# Altium footprint library swicth.PcbLib: 82 footprints (part 4 of 6)
Each footprint in its own frame and in the unit in brackets; x right, y up, seen from the top. Pads: shape width x height; smd on the part's side, far side on the other; paste and mask are expansions set on the pad; w line width, h text height; cw(c..) or ccw(c..) is an arc to the next point about the centre after c.
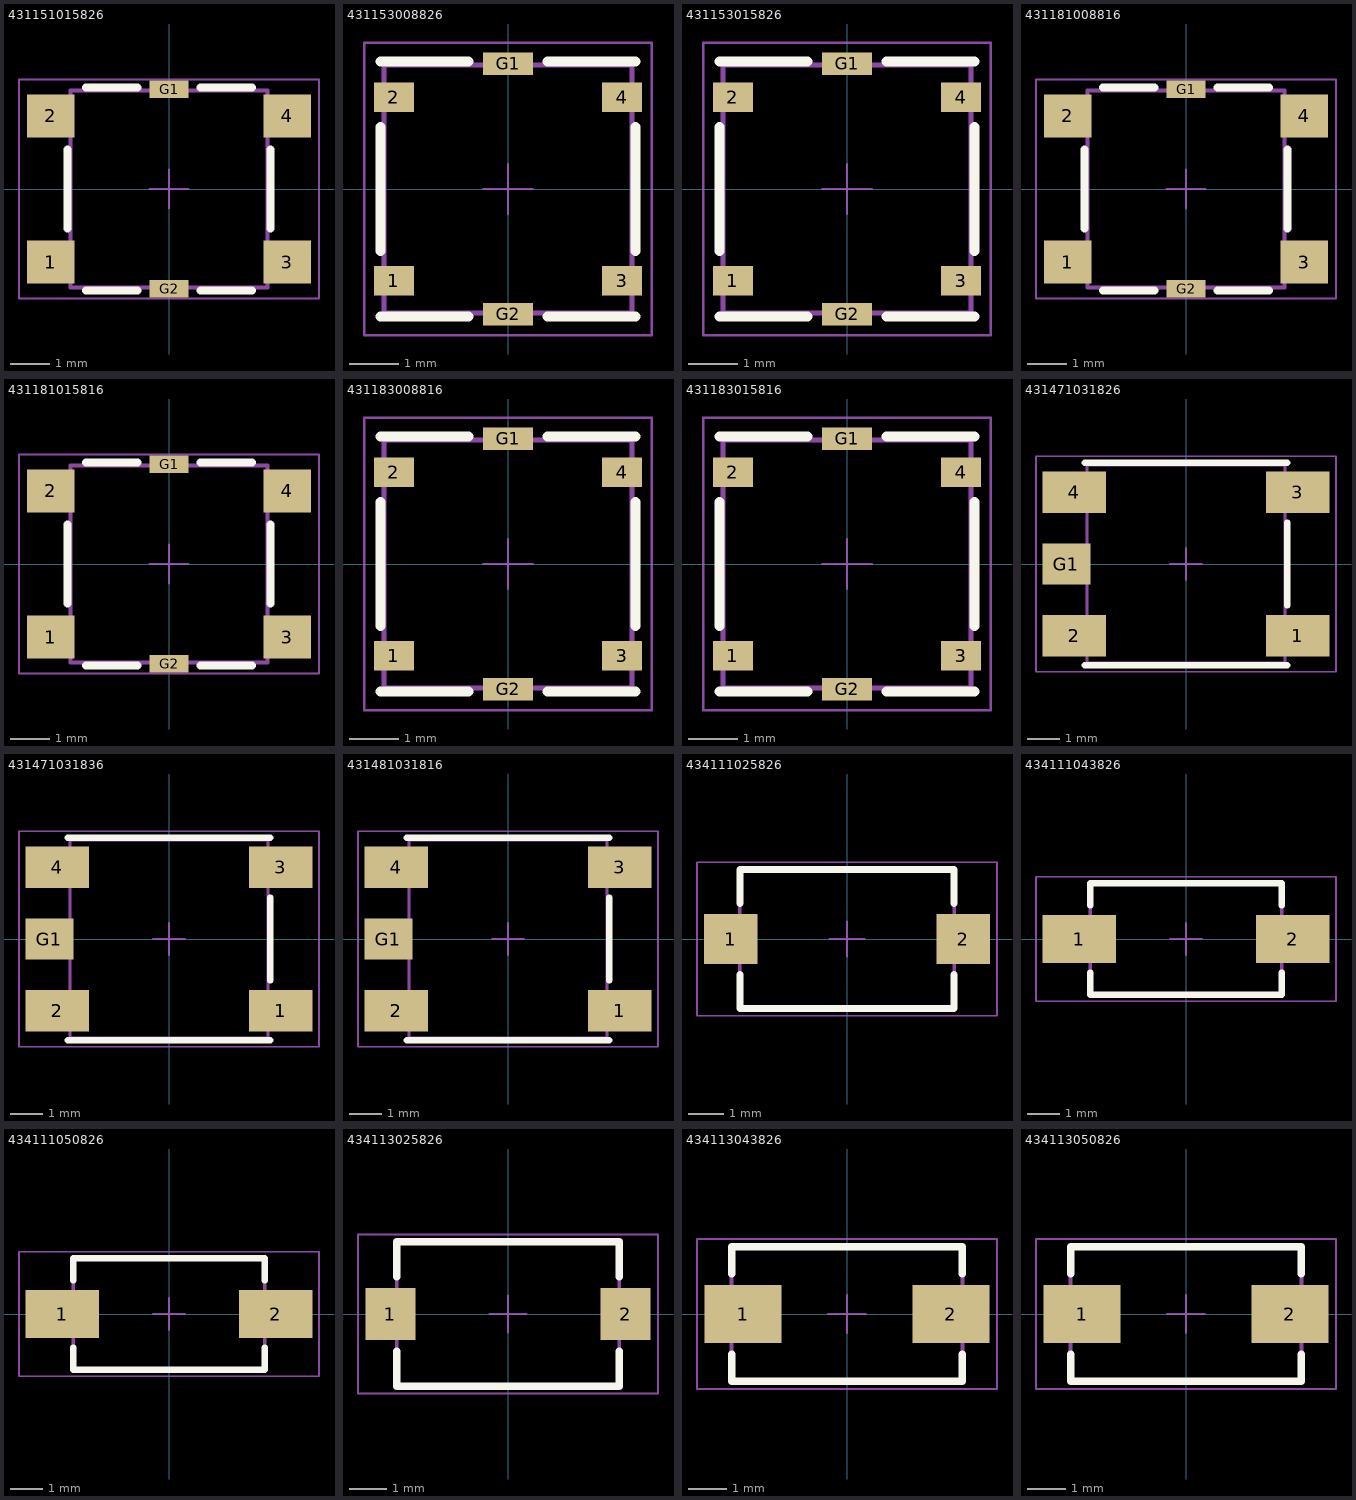
[diagram p3: the footprints below, top view; thin cyan lines are the x and y axes]

## 431151015826 [mm] "Tact Switch, SMD, body 5x5mm"
height 1.5
pads (6):
  rect 1.2x1.1 smd: 1(-3,-1.85) 2(-3,1.85) 3(3,-1.85) 4(3,1.85)
  rect 1x0.45 smd: G1(0,2.525) G2(0,-2.525)
Top Overlay:
  lines w0.2: -2.575,-1 -2.575,1 ; -2.1,-2.575 -0.8,-2.575 ; -2.1,2.575 -0.8,2.575 ; 0.8,-2.575 2.1,-2.575 ; 0.8,2.575 2.1,2.575 ; 2.575,-1 2.575,1
Mechanical 13:
  lines w0.1: -2.5,-2.1 -3.1,-2.1 -3.1,-1.6 -2.5,-1.6 ; -2.5,1.6 -3.1,1.6 -3.1,2.1 -2.5,2.1 ; 2.5,-2.1 3.1,-2.1 3.1,-1.6 2.5,-1.6 ; 2.5,1.6 3.1,1.6 3.1,2.1 2.5,2.1 ; -2.5,-2.5 -2.5,2.5 2.5,2.5 2.5,-2.5 -2.5,-2.5
Mechanical 15:
  lines w0.05: -0.5,0 0.5,0 ; 0,-0.5 0,0.5 ; -3.8,-2.775 3.8,-2.775 3.8,2.775 -3.8,2.775 -3.8,-2.775
3D body "4311x10158x6.stp": height 1.5, standoff 0, extent -3.1,-2.5 3.1,2.5

## 431153008826 [mm] "Tact Switch, SMD, body 5x5mm"
height 0.8
pads (6):
  rect 0.8x0.6 smd: 1(-2.3,-1.85) 2(-2.3,1.85) 3(2.3,-1.85) 4(2.3,1.85)
  rect 1x0.45 smd: G1(0,2.525) G2(0,-2.525)
Top Overlay:
  lines w0.2: -2.575,-2.575 -0.8,-2.575 ; -2.575,-1.25 -2.575,1.25 ; -2.575,2.575 -0.8,2.575 ; 0.8,-2.575 2.575,-2.575 ; 0.8,2.575 2.575,2.575 ; 2.575,-1.25 2.575,1.25
Mechanical 13:
  lines w0.1: -2.5,-2.5 2.5,-2.5 2.5,2.5 -2.5,2.5 -2.5,-2.5
Mechanical 15:
  lines w0.05: -0.5,0 0.5,0 ; 0,-0.5 0,0.5 ; -2.9,-2.95 2.9,-2.95 2.9,2.95 -2.9,2.95 -2.9,-2.95
3D body "4311x30088x6.stp": height 0.8, standoff 0, extent -2.55,-2.5 2.55,2.5

## 431153015826 [mm] "Tact Switch, SMD, body 5x5mm"
height 1.5
pads (6):
  rect 0.8x0.6 smd: 1(-2.3,-1.85) 2(-2.3,1.85) 3(2.3,-1.85) 4(2.3,1.85)
  rect 1x0.45 smd: G1(0,2.525) G2(0,-2.525)
Top Overlay:
  lines w0.2: -2.575,-2.575 -0.8,-2.575 ; -2.575,-1.25 -2.575,1.25 ; -2.575,2.575 -0.8,2.575 ; 0.8,-2.575 2.575,-2.575 ; 0.8,2.575 2.575,2.575 ; 2.575,-1.25 2.575,1.25
Mechanical 13:
  lines w0.1: -2.5,-2.5 -2.5,2.5 2.5,2.5 2.5,-2.5 -2.5,-2.5
Mechanical 15:
  lines w0.05: -0.5,0 0.5,0 ; 0,-0.5 0,0.5 ; -2.9,-2.95 -2.9,2.95 2.9,2.95 2.9,-2.95 -2.9,-2.95
3D body "4311x30158x6.stp": height 1.5, standoff 0, extent -2.55,-2.5 2.55,2.5

## 431181008816 [mm] "Tact Switch, SMD, body 5x5mm"
height 0.8
pads (6):
  rect 1.2x1.1 smd: 1(-3,-1.85) 2(-3,1.85) 3(3,-1.85) 4(3,1.85)
  rect 1x0.45 smd: G1(0,2.525) G2(0,-2.525)
Top Overlay:
  lines w0.2: -2.575,-1 -2.575,1 ; -2.1,-2.575 -0.8,-2.575 ; -2.1,2.575 -0.8,2.575 ; 0.8,-2.575 2.1,-2.575 ; 0.8,2.575 2.1,2.575 ; 2.575,-1 2.575,1
Mechanical 13:
  lines w0.1: -2.5,-2.1 -3.1,-2.1 -3.1,-1.6 -2.5,-1.6 ; -2.5,1.6 -3.1,1.6 -3.1,2.1 -2.5,2.1 ; 2.5,-2.1 3.1,-2.1 3.1,-1.6 2.5,-1.6 ; 2.5,1.6 3.1,1.6 3.1,2.1 2.5,2.1 ; -2.5,-2.5 2.5,-2.5 2.5,2.5 -2.5,2.5 -2.5,-2.5
Mechanical 15:
  lines w0.05: -0.5,0 0.5,0 ; 0,-0.5 0,0.5 ; -3.8,-2.775 3.8,-2.775 3.8,2.775 -3.8,2.775 -3.8,-2.775
3D body "4311x10088x6.stp": height 0.8, standoff 0, extent -3.1,-2.5 3.1,2.5

## 431181015816 [mm] "Tact Switch, SMD, body 5x5mm"
height 1.5
pads (6):
  rect 1.2x1.1 smd: 1(-3,-1.85) 2(-3,1.85) 3(3,-1.85) 4(3,1.85)
  rect 1x0.45 smd: G1(0,2.525) G2(0,-2.525)
Top Overlay:
  lines w0.2: -2.575,-1 -2.575,1 ; -2.1,-2.575 -0.8,-2.575 ; -2.1,2.575 -0.8,2.575 ; 0.8,-2.575 2.1,-2.575 ; 0.8,2.575 2.1,2.575 ; 2.575,-1 2.575,1
Mechanical 13:
  lines w0.1: -2.5,-2.1 -3.1,-2.1 -3.1,-1.6 -2.5,-1.6 ; -2.5,1.6 -3.1,1.6 -3.1,2.1 -2.5,2.1 ; 2.5,-2.1 3.1,-2.1 3.1,-1.6 2.5,-1.6 ; 2.5,1.6 3.1,1.6 3.1,2.1 2.5,2.1 ; -2.5,-2.5 2.5,-2.5 2.5,2.5 -2.5,2.5 -2.5,-2.5
Mechanical 15:
  lines w0.05: -0.5,0 0.5,0 ; 0,-0.5 0,0.5 ; -3.8,-2.775 -3.8,2.775 3.8,2.775 3.8,-2.775 -3.8,-2.775
3D body "4311x10158x6.stp": height 1.5, standoff 0, extent -3.1,-2.5 3.1,2.5

## 431183008816 [mm] "Tact Switch, SMD, body 5x5mm"
height 0.8
pads (6):
  rect 0.8x0.6 smd: 1(-2.3,-1.85) 2(-2.3,1.85) 3(2.3,-1.85) 4(2.3,1.85)
  rect 1x0.45 smd: G1(0,2.525) G2(0,-2.525)
Top Overlay:
  lines w0.2: -2.575,-2.575 -0.8,-2.575 ; -2.575,-1.25 -2.575,1.25 ; -2.575,2.575 -0.8,2.575 ; 0.8,-2.575 2.575,-2.575 ; 0.8,2.575 2.575,2.575 ; 2.575,-1.25 2.575,1.25
Mechanical 13:
  lines w0.1: -2.5,-2.5 2.5,-2.5 2.5,2.5 -2.5,2.5 -2.5,-2.5
Mechanical 15:
  lines w0.05: -0.5,0 0.5,0 ; 0,-0.5 0,0.5 ; -2.9,-2.95 2.9,-2.95 2.9,2.95 -2.9,2.95 -2.9,-2.95
3D body "4311x30088x6.stp": height 0.8, standoff 0, extent -2.55,-2.5 2.55,2.5

## 431183015816 [mm] "Tact Switch, SMD, body 5x5mm"
height 1.5
pads (6):
  rect 0.8x0.6 smd: 1(-2.3,-1.85) 2(-2.3,1.85) 3(2.3,-1.85) 4(2.3,1.85)
  rect 1x0.45 smd: G1(0,2.525) G2(0,-2.525)
Top Overlay:
  lines w0.2: -2.575,-2.575 -0.8,-2.575 ; -2.575,-1.25 -2.575,1.25 ; -2.575,2.575 -0.8,2.575 ; 0.8,-2.575 2.575,-2.575 ; 0.8,2.575 2.575,2.575 ; 2.575,-1.25 2.575,1.25
Mechanical 13:
  lines w0.1: -2.5,-2.5 -2.5,2.5 2.5,2.5 2.5,-2.5 -2.5,-2.5
Mechanical 15:
  lines w0.05: -0.5,0 0.5,0 ; 0,-0.5 0,0.5 ; -2.9,-2.95 -2.9,2.95 2.9,2.95 2.9,-2.95 -2.9,-2.95
3D body "4311x30158x6.stp": height 1.5, standoff 0, extent -2.55,-2.5 2.55,2.5

## 431471031826 [mm] "SMD Tact Switch, body 6x6mm"
height 3.1
pads (5):
  rect 2x1.3 smd: 1(3.5,-2.25) 2(-3.5,-2.25) 3(3.5,2.25) 4(-3.5,2.25)
  rect 1.5x1.3 smd: G1(-3.75,0)
Top Overlay:
  lines w0.2: -3.175,-3.175 3.175,-3.175 ; -3.175,3.175 3.175,3.175 ; 3.175,-1.3 3.175,1.3
Mechanical 13:
  lines w0.1: -3.1,-2.6 -4,-2.6 -4,-1.9 -3.1,-1.9 ; -3.1,-0.35 -4,-0.35 -4,0.35 -3.1,0.35 ; -3.1,1.9 -4,1.9 -4,2.6 -3.1,2.6 ; 3.1,-2.6 4,-2.6 4,-1.9 3.1,-1.9 ; 3.1,1.9 4,1.9 4,2.6 3.1,2.6 ; -3.1,-3.1 -3.1,3.1 3.1,3.1 3.1,-3.1 -3.1,-3.1
Mechanical 15:
  lines w0.05: -0.5,0 0.5,0 ; 0,-0.5 0,0.5 ; -4.7,-3.375 -4.7,3.375 4.7,3.375 4.7,-3.375 -4.7,-3.375
3D body "4314x10318x6.stp": height 3.1, standoff 0, extent -4,-3.1 4,3.1

## 431471031836 [mm] "SMD Tact Switch, body 6x6mm"
height 3.1
pads (5):
  rect 2x1.3 smd: 1(3.5,-2.25) 2(-3.5,-2.25) 3(3.5,2.25) 4(-3.5,2.25)
  rect 1.5x1.3 smd: G1(-3.75,0)
Top Overlay:
  lines w0.2: -3.175,-3.175 3.175,-3.175 ; -3.175,3.175 3.175,3.175 ; 3.175,-1.3 3.175,1.3
Mechanical 13:
  lines w0.1: -3.1,-2.6 -4,-2.6 -4,-1.9 -3.1,-1.9 ; -3.1,-0.35 -4,-0.35 -4,0.35 -3.1,0.35 ; -3.1,1.9 -4,1.9 -4,2.6 -3.1,2.6 ; 3.1,-2.6 4,-2.6 4,-1.9 3.1,-1.9 ; 3.1,1.9 4,1.9 4,2.6 3.1,2.6 ; -3.1,-3.1 -3.1,3.1 3.1,3.1 3.1,-3.1 -3.1,-3.1
Mechanical 15:
  lines w0.05: -0.5,0 0.5,0 ; 0,-0.5 0,0.5 ; -4.7,-3.375 -4.7,3.375 4.7,3.375 4.7,-3.375 -4.7,-3.375
3D body "4314x10318x6.stp": height 3.1, standoff 0, extent -4,-3.1 4,3.1

## 431481031816 [mm] "SMD Tact Switch, body 6x6mm"
height 3.1
pads (5):
  rect 2x1.3 smd: 1(3.5,-2.25) 2(-3.5,-2.25) 3(3.5,2.25) 4(-3.5,2.25)
  rect 1.5x1.3 smd: G1(-3.75,0)
Top Overlay:
  lines w0.2: -3.175,-3.175 3.175,-3.175 ; -3.175,3.175 3.175,3.175 ; 3.175,-1.3 3.175,1.3
Mechanical 13:
  lines w0.1: -3.1,-2.6 -4,-2.6 -4,-1.9 -3.1,-1.9 ; -3.1,-0.35 -4,-0.35 -4,0.35 -3.1,0.35 ; -3.1,1.9 -4,1.9 -4,2.6 -3.1,2.6 ; 3.1,-2.6 4,-2.6 4,-1.9 3.1,-1.9 ; 3.1,1.9 4,1.9 4,2.6 3.1,2.6 ; -3.1,-3.1 3.1,-3.1 3.1,3.1 -3.1,3.1 -3.1,-3.1
Mechanical 15:
  lines w0.05: -0.5,0 0.5,0 ; 0,-0.5 0,0.5 ; -4.7,-3.375 4.7,-3.375 4.7,3.375 -4.7,3.375 -4.7,-3.375
3D body "4314x10318x6.stp": height 3.1, standoff 0, extent -4,-3.1 4,3.1

## 434111025826 [mm] "SMD Tact Switch, body 6x3.8mm"
height 2.5
pads (2):
  rect 1.5x1.4 smd: 1(-3.25,0) 2(3.25,0)
Top Overlay:
  lines w0.2: -3,-1 -3,-1.95 3,-1.95 3,-1 ; -3,1 -3,1.95 3,1.95 3,1
Mechanical 13:
  lines w0.1: -3,-0.5 -3.65,-0.5 -3.65,0.5 -3,0.5 ; 3,-0.5 3.65,-0.5 3.65,0.5 3,0.5 ; -3,-1.95 3,-1.95 3,1.95 -3,1.95 -3,-1.95
Mechanical 15:
  lines w0.05: -0.5,0 0.5,0 ; 0,-0.5 0,0.5 ; -4.2,-2.15 -4.2,2.15 4.2,2.15 4.2,-2.15 -4.2,-2.15
3D body "4341x10258xx.stp": height 2.5, standoff 0, extent -3.65,-1.95 3.65,1.95

## 434111043826 [mm] "SMD Tact Switch, body 6x3.5mm"
height 4.3
pads (2):
  rect 2.3x1.5 smd: 1(-3.35,0) 2(3.35,0)
Top Overlay:
  lines w0.2: -3,-1.05 -3,-1.75 3,-1.75 3,-1.05 ; -3,1.05 -3,1.75 3,1.75 3,1.05
Mechanical 13:
  lines w0.1: -3,-0.5 -4,-0.5 -4,0.5 -3,0.5 ; 3,-0.5 4,-0.5 4,0.5 3,0.5 ; -3,-1.75 3,-1.75 3,1.75 -3,1.75 -3,-1.75
Mechanical 15:
  lines w0.05: -0.5,0 0.5,0 ; 0,-0.5 0,0.5 ; -4.7,-1.95 4.7,-1.95 4.7,1.95 -4.7,1.95 -4.7,-1.95
3D body "4341x10438x6.stp": height 4.3, standoff 0, extent -4,-1.75 4,1.75

## 434111050826 [mm] "SMD Tact Switch, body 6x3.5mm"
height 5
pads (2):
  rect 2.3x1.5 smd: 1(-3.35,0) 2(3.35,0)
Top Overlay:
  lines w0.2: -3,-1.05 -3,-1.75 3,-1.75 3,-1.05 ; -3,1.05 -3,1.75 3,1.75 3,1.05
Mechanical 13:
  lines w0.1: -3,-0.5 -4,-0.5 -4,0.5 -3,0.5 ; 3,-0.5 4,-0.5 4,0.5 3,0.5 ; -3,-1.75 3,-1.75 3,1.75 -3,1.75 -3,-1.75
Mechanical 15:
  lines w0.05: -0.5,0 0.5,0 ; 0,-0.5 0,0.5 ; -4.7,-1.95 4.7,-1.95 4.7,1.95 -4.7,1.95 -4.7,-1.95
3D body "4341x10508x6.stp": height 5, standoff 0, extent -4,-1.75 4,1.75

## 434113025826 [mm] "SMD Tact Switch, body 6x3.8mm"
height 2.5
pads (2):
  rect 1.35x1.4 smd: 1(-3.175,0) 2(3.175,0)
Top Overlay:
  lines w0.2: -3,-1 -3,-1.95 3,-1.95 3,-1 ; -3,1 -3,1.95 3,1.95 3,1
Mechanical 13:
  lines w0.1: -3,-1.95 3,-1.95 3,1.95 -3,1.95 -3,-1.95
Mechanical 15:
  lines w0.05: -0.5,0 0.5,0 ; 0,-0.5 0,0.5 ; -4.05,-2.15 4.05,-2.15 4.05,2.15 -4.05,2.15 -4.05,-2.15
3D body "4341x30258xx.stp": height 2.5, standoff 0, extent -3.5,-1.95 3.5,1.95

## 434113043826 [mm] "SMD Tact Switch, body 6x3.5mm"
height 4.3
pads (2):
  rect 2x1.5 smd: 1(-2.7,0) 2(2.7,0)
Top Overlay:
  lines w0.2: -3,-1.05 -3,-1.75 3,-1.75 3,-1.05 ; -3,1.05 -3,1.75 3,1.75 3,1.05
Mechanical 13:
  lines w0.1: -3,-1.75 -3,1.75 3,1.75 3,-1.75 -3,-1.75
Mechanical 15:
  lines w0.05: -0.5,0 0.5,0 ; 0,-0.5 0,0.5 ; -3.9,-1.95 3.9,-1.95 3.9,1.95 -3.9,1.95 -3.9,-1.95
3D body "4341x30438x6.stp": height 4.3, standoff 0, extent -3.649,-1.75 3.65,1.75

## 434113050826 [mm] "SMD Tact Switch, body 6x3.5mm"
height 5
pads (2):
  rect 2x1.5 smd: 1(-2.7,0) 2(2.7,0)
Top Overlay:
  lines w0.2: -3,-1.05 -3,-1.75 3,-1.75 3,-1.05 ; -3,1.05 -3,1.75 3,1.75 3,1.05
Mechanical 13:
  lines w0.1: -3,-1.75 -3,1.75 3,1.75 3,-1.75 -3,-1.75
Mechanical 15:
  lines w0.05: -0.5,0 0.5,0 ; 0,-0.5 0,0.5 ; -3.9,-1.95 3.9,-1.95 3.9,1.95 -3.9,1.95 -3.9,-1.95
3D body "4341x30508x6.stp": height 5, standoff 0, extent -3.649,-1.75 3.65,1.75